# EAGLE library part 045138008100858+ (library SamacSys_Parts)
Memory Card Connectors MICRO SD CARD 5138 SERIES Source: Datasheet <https://www.mouser.sg/datasheet/2/909/5138-1359342.pdf>
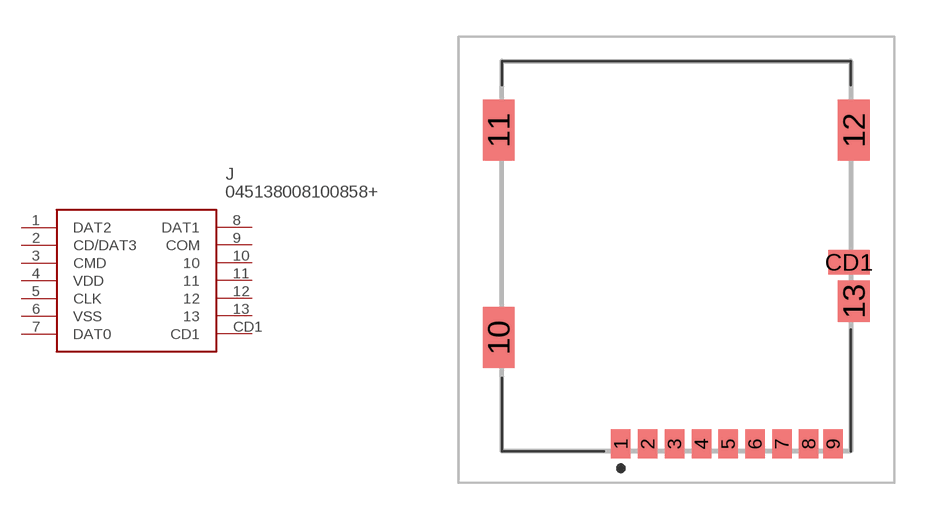
[diagram p147: symbol with the pads of 045138008100858; footprint 045138008100858]

Designator prefix J

## 045138008100858+ (DESCRIPTION: Memory Card Connectors MICRO SD CARD 5138 SERIES; HEIGHT: 1.4mm; MANUFACTURER_NAME: AVX; MANUFACTURER_PART_NUMBER: 045138008100858+; MOUSER_PART_NUMBER: 581-045138008100858+; MOUSER_PRICE-STOCK: https://www.mouser.com/Search/Refine.aspx?Keyword=581-045138008100858%2B)  [045138008100858]
1  DAT2
2  CD/DAT3
3  CMD
4  VDD
5  CLK
6  VSS
7  DAT0
8  DAT1
9  COM
10  10
11  11
12  12
13  13
CD1  CD1

## Footprint 045138008100858 (pad centres in mm)
045138008100858+-2
smd 0.8 x 1.2: 1 -2.27,-7.55; 2 -1.17,-7.55; 3 -0.07,-7.55; 4 1.03,-7.55; 5 2.13,-7.55; 6 3.23,-7.55; 7 4.33,-7.55; 8 5.43,-7.55; 9 6.43,-7.55
smd 1.3 x 2.5: 10 -7.28,-3.19; 11 -7.28,5.31; 12 7.28,5.31
smd 1.3 x 1.7: 13 7.28,-1.7
smd 1.7 x 1: CD1 7.08,-0.1